# Altium schematic symbol library SMD-RES-4.7K-5%-1_10W(0603).SchLib: 1 symbol
Pins are listed as number, name and electrical type; pins without a type are passive.

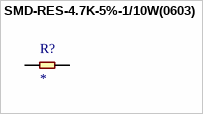
[diagram p0: symbol SMD-RES-4.7K-5%-1/10W(0603)]

## SMD-RES-4.7K-5%-1/10W(0603)
designator R?
4.7 kOhms Â±5% 0.1W, 1/10W Chip Resistor 0603 (1608 Metric) Moisture Resistant Thick Film; MF: Yageo; MP: RC0603JR-074K7L; Value: *; Check_prices: https://www.snapeda.com/parts/RC0603JR-074K7L/Yageo/view-part/105929/?ref=eda; Availability: In Stock; Package: 0603 Yageo; SnapEDA_Link: https://www.snapeda.com/parts/RC0603JR-074K7L/Yageo/view-part/105929/?ref=snap; Price: None
pins: 1, 2